# EAGLE library part WH2004 (library lcd-char)
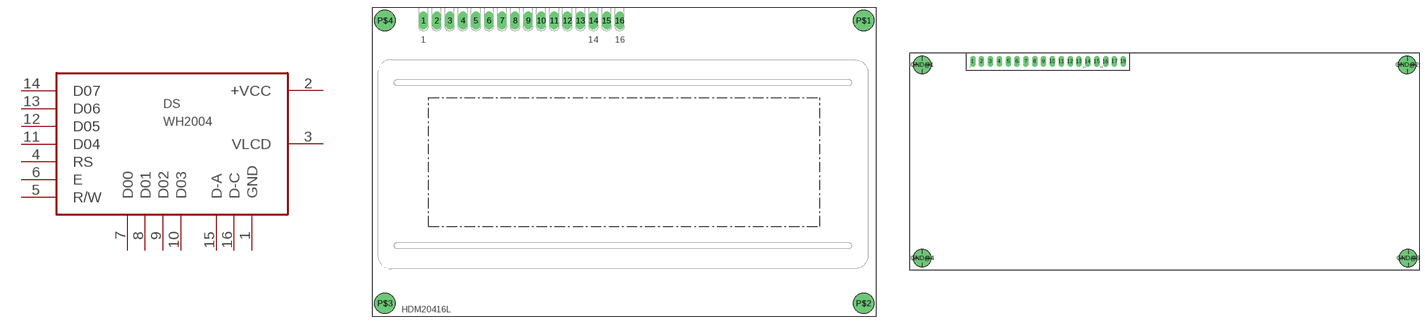
[diagram p0: symbol with the pads of HDM20416L; footprints HDM20416L, WH2004L]

Designator prefix DS

## WH2004A  [HDM20416L]
1  GND  pwr
2  +VCC  pwr
3  VLCD  pwr
4  RS  in
5  R/W  in
6  E  in
7  D00
8  D01
9  D02
10  D03
11  D04
12  D05
13  D06
14  D07
15  D-A  pwr
16  D-C  pwr

## WH2004L  [WH2004L]
Pads as for HDM20416L

## WH2004L-ND  [WH2004L-ND]
Pads as for HDM20416L

## Footprint HDM20416L (pad centres in mm)
drill 1 pad 1.778 long: 1 -38.105,27.947; 2 -35.565,27.947; 3 -33.025,27.947; 4 -30.485,27.947; 5 -27.945,27.947; 6 -25.405,27.947; 7 -22.865,27.947; 8 -20.325,27.947; 9 -17.785,27.947; 10 -15.245,27.947; 11 -12.705,27.947; 12 -10.165,27.947; 13 -7.625,27.947; 14 -5.085,27.947; 15 -2.545,27.947; 16 -0.005,27.947
drill 2.5 pad 3.81: P$1 47.409,27.94; P$2 47.396,-27.064; P$3 -45.593,-27.064; P$4 -45.593,27.94

## Footprint WH2004L (pad centres in mm)
WH2004L 146x139mm display
drill 1 long: 1 0,0; 2 2.54,0; 3 5.08,0; 4 7.62,0; 5 10.16,0; 6 12.7,0; 7 15.24,0; 8 17.78,0; 9 20.32,0; 10 22.86,0; 11 25.4,0; 12 27.94,0; 13 30.48,0; 14 33.02,0; 15 35.56,0; 16 38.1,0; 17 40.64,0; 18 43.18,0
drill 2.5 pad 5: GND@1 -14.5,-1; GND@2 124.5,-1; GND@3 124.8,-56.5; GND@4 -14.5,-56.5

## Footprint WH2004L-ND (pad centres in mm)
WH2004L 146x139mm display. No metallized dirlls
drill 1 long: 1 0,0; 2 2.54,0; 3 5.08,0; 4 7.62,0; 5 10.16,0; 6 12.7,0; 7 15.24,0; 8 17.78,0; 9 20.32,0; 10 22.86,0; 11 25.4,0; 12 27.94,0; 13 30.48,0; 14 33.02,0; 15 35.56,0; 16 38.1,0; 17 40.64,0; 18 43.18,0
hole 2.5 at -14.5,-1
hole 2.5 at 124.5,-1
hole 2.5 at 124.5,-56.5
hole 2.5 at -14.5,-56.5